# EAGLE library part BITCRUSHER-V1.0 (library XM8)
CV controlled bitcrusher with reconstruction filter
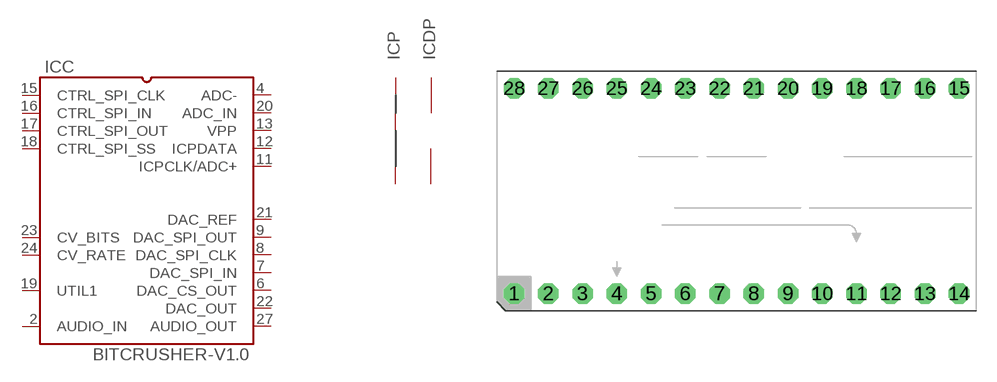
[diagram p20: symbol with the pads of XM8-BITCRUSHER-V1.0; footprint XM8-BITCRUSHER-V1.0]

Designator prefix IC; gates C=XM8-BITCRUSHER-V1.0 P=XM8-PWR DP=XM8-DIG-PWR

## BITCRUSHER-V1.0  [XM8-BITCRUSHER-V1.0]
1  P:-V  pwr
2  C:AUDIO_IN
3  P:AGND  pwr
4  C:ADC-
6  C:DAC_CS_OUT
7  C:DAC_SPI_IN
8  C:DAC_SPI_CLK
9  C:DAC_SPI_OUT
10  DP:+5V  pwr
11  C:ICPCLK/ADC+
12  C:ICPDATA
13  C:VPP
14  DP:DGND  pwr
15  C:CTRL_SPI_CLK
16  C:CTRL_SPI_IN
17  C:CTRL_SPI_OUT
18  C:CTRL_SPI_SS
19  C:UTIL1
20  C:ADC_IN
21  C:DAC_REF
22  C:DAC_OUT
23  C:CV_BITS
24  C:CV_RATE
27  C:AUDIO_OUT
28  P:+V  pwr

## Footprint XM8-BITCRUSHER-V1.0 (pad centres in mm)
drill 1.016 octagon: 1 -16.51,-7.62; 2 -13.97,-7.62; 3 -11.43,-7.62; 4 -8.89,-7.62; 5 -6.35,-7.62; 6 -3.81,-7.62; 7 -1.27,-7.62; 8 1.27,-7.62; 9 3.81,-7.62; 10 6.35,-7.62; 11 8.89,-7.62; 12 11.43,-7.62; 13 13.97,-7.62; 14 16.51,-7.62; 15 16.51,7.62; 16 13.97,7.62; 17 11.43,7.62; 18 8.89,7.62; 19 6.35,7.62; 20 3.81,7.62; 21 1.27,7.62; 22 -1.27,7.62; 23 -3.81,7.62; 24 -6.35,7.62; 25 -8.89,7.62; 26 -11.43,7.62; 27 -13.97,7.62; 28 -16.51,7.62